# EAGLE library part REL-G6H (library divers)
Relais 2x2, Omron G6Hxxx Plastic case (14*9mm)
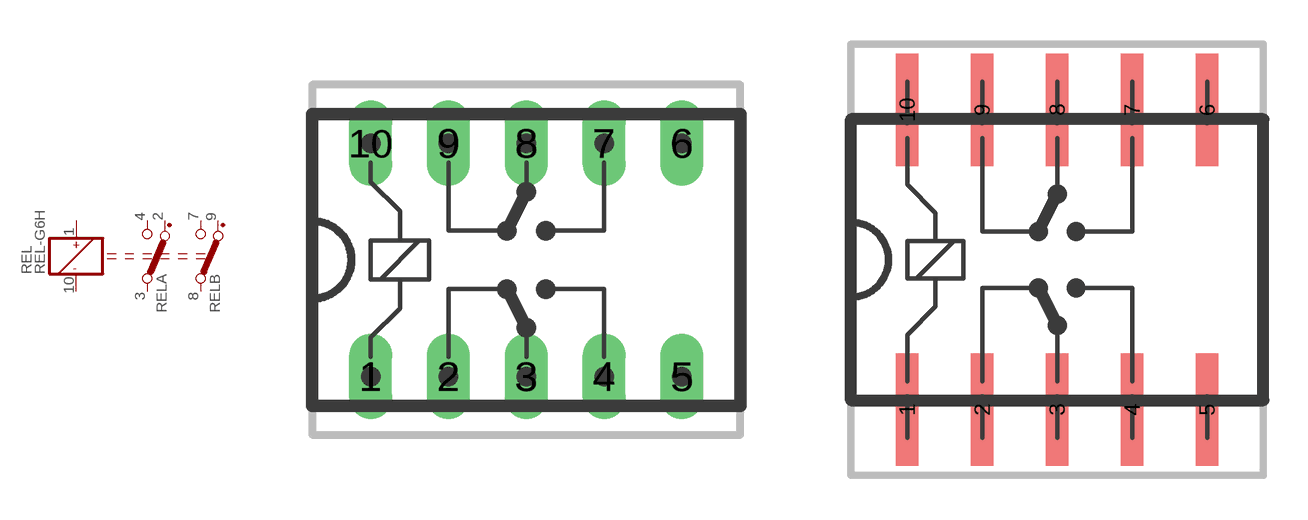
[diagram p23: symbol with the pads of G6HN; footprints G6HN, G6HS]

Designator prefix REL; gates P=REL+-P A=REL1X2P B=REL1X2P

## REL-G6H  [G6HN]
1  P:V+  pwr
2  A:0
3  A:I
4  A:1
7  B:1
8  B:I
9  B:0
10  P:V-  pwr

## REL-G6HS  [G6HS]
Pads as for G6HN

## Footprint G6HN (pad centres in mm)
RF relais 2x2 (14*9mm) - Omron G6Hxxx
drill 0.813 pad 1.397 long: 1 -5.08,-3.81; 2 -2.54,-3.81; 3 0,-3.81; 4 2.54,-3.81; 5 5.08,-3.81; 6 5.08,3.81; 7 2.54,3.81; 8 0,3.81; 9 -2.54,3.81; 10 -5.08,3.81

## Footprint G6HS (pad centres in mm)
RF relais 2x2 (14*9mm), SMD - Omron G6Hxxx
smd 0.762 x 3.81: 1 -5.08,-5.08; 2 -2.54,-5.08; 3 0,-5.08; 4 2.54,-5.08; 5 5.08,-5.08; 6 5.08,5.08; 7 2.54,5.08; 8 0,5.08; 9 -2.54,5.08; 10 -5.08,5.08